# Altium footprint library TI Power Management Lighting and Display.PcbLib: 148 footprints (part 3 of 10)
Each footprint in its own frame and in the unit in brackets; x right, y up, seen from the top. Pads: shape width x height; smd on the part's side, far side on the other; paste and mask are expansions set on the pad; w line width, h text height; cw(c..) or ccw(c..) is an arc to the next point about the centre after c.
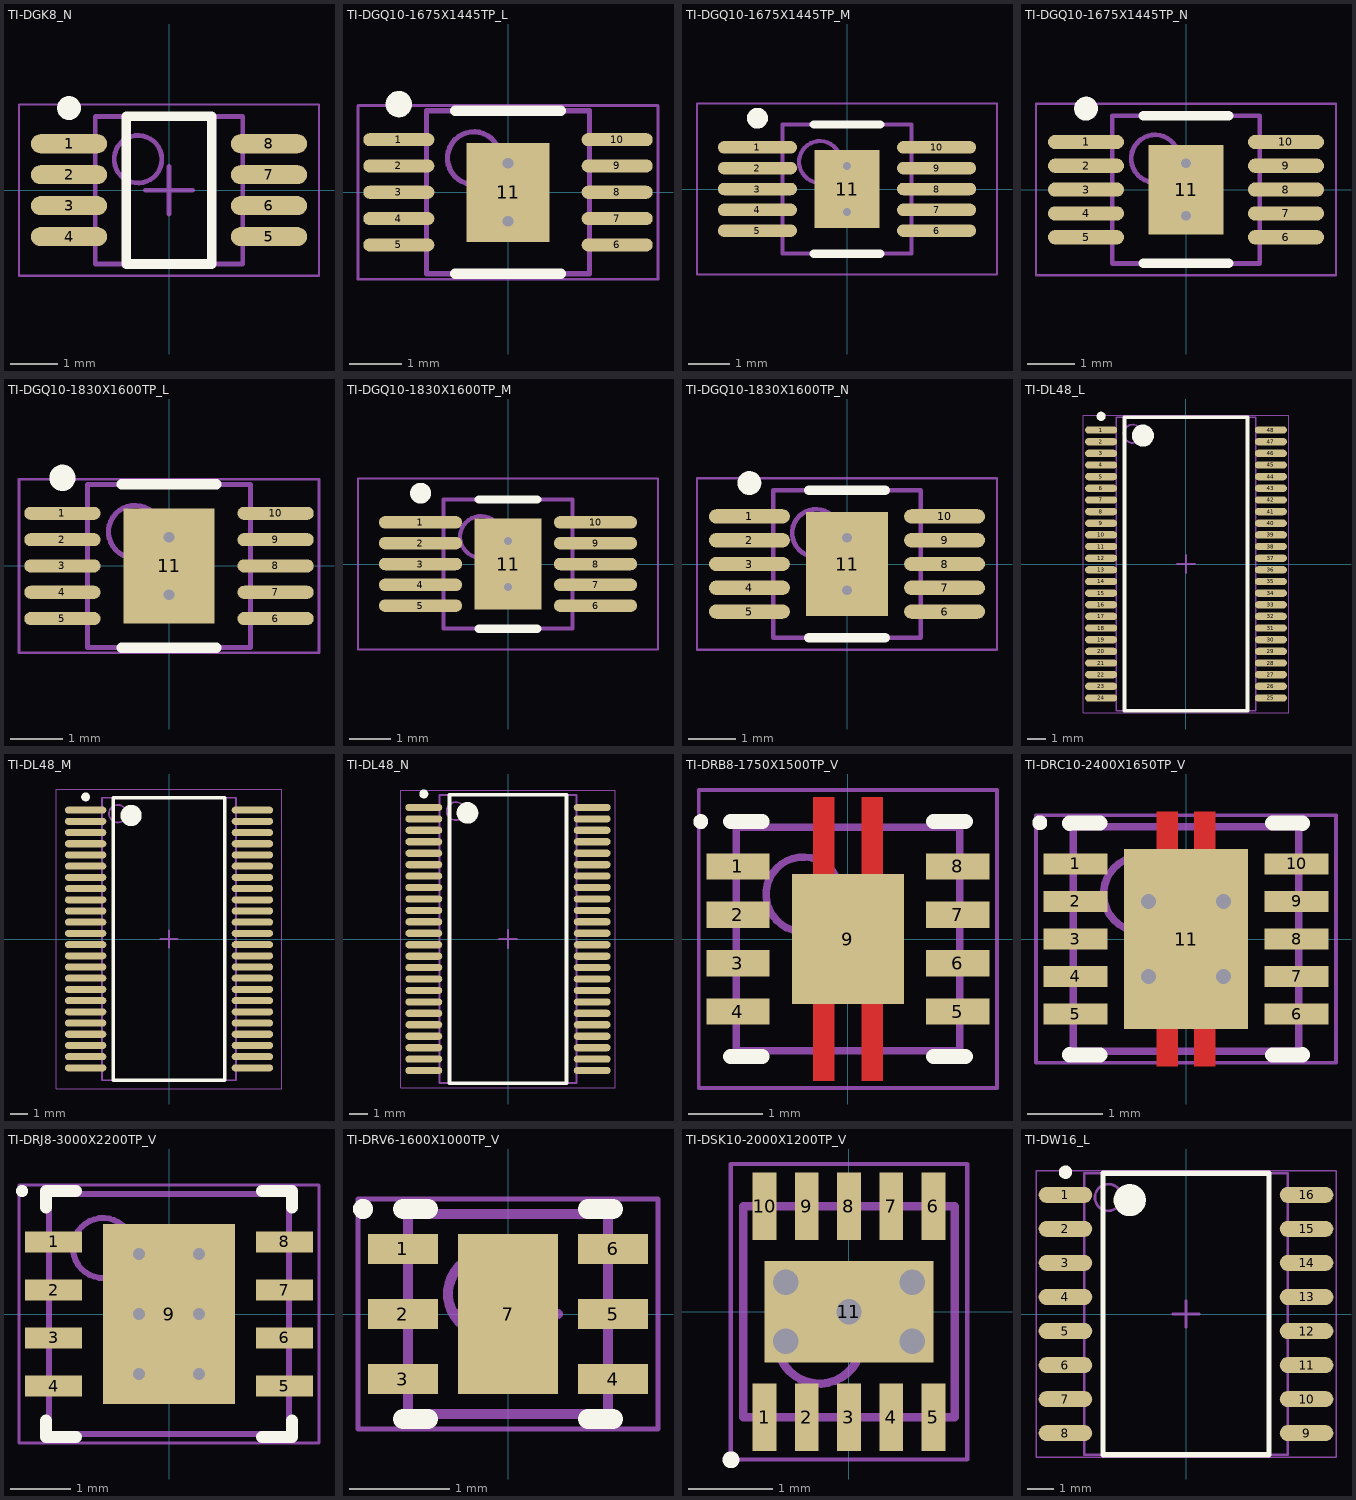
[diagram p2: the footprints below, top view; thin cyan lines are the x and y axes]

## TI-DGK8_N [mm] "SOP, 8-Leads, Body 3x3mm, Pitch 0.65mm, IPC Medium Density"
height 1.1
pads (8):
  oval 1.6x0.4 smd: 1(-2.1,0.975) 2(-2.1,0.325) 3(-2.1,-0.325) 4(-2.1,-0.975) 5(2.1,-0.975) 6(2.1,-0.325) 7(2.1,0.325) 8(2.1,0.975)
Top Overlay:
  circle w0.25: c-2.1,1.725 r0.125
  lines w0.2: -0.9,-1.55 0.9,-1.55 0.9,1.55 -0.9,1.55 -0.9,-1.55
Mechanical 13:
  circle w0.1: c-0.65,0.65 r0.5
  lines w0.1: -1.55,-1.55 1.55,-1.55 1.55,1.55 -1.55,1.55 -1.55,-1.55
Mechanical 15:
  lines w0.05: -3.15,-1.8 3.15,-1.8 3.15,1.8 -3.15,1.8 -3.15,-1.8
  lines w0.1: -0.5,0 0.5,0 ; 0,-0.5 0,0.5
3D body: height 1.1, standoff 0.05, extent -1.55,-1.55 1.55,1.55

## TI-DGQ10-1675X1445TP_L [mm] "SOP, 10-Leads, Body 3.0x3.0mm, Pitch 0.5mm, Thermal Pad 1.675X1.445mm, IPC High Density"
height 1.1
pads (11):
  oval 1.35x0.25 smd: 1(-2.075,1) 2(-2.075,0.5) 3(-2.075,0) 4(-2.075,-0.5) 5(-2.075,-1) 6(2.075,-1) 7(2.075,-0.5) 8(2.075,0) 9(2.075,0.5) 10(2.075,1)
  rect 1.57x1.88 smd: 11(0,0)
via 0,0.55 diameter 0.5 hole 0.2
via 0,-0.55 diameter 0.5 hole 0.2
Top Overlay:
  circle w0.25: c-2.075,1.675 r0.125
  lines w0.2: -1,-1.55 1,-1.55 ; -1,1.55 1,1.55
Mechanical 13:
  circle w0.1: c-0.65,0.65 r0.5
  lines w0.1: -1.55,-1.55 -1.55,1.55 1.55,1.55 1.55,-1.55 -1.55,-1.55
Mechanical 15:
  lines w0.05: -2.85,-1.65 -2.85,1.65 2.85,1.65 2.85,-1.65 -2.85,-1.65
  lines w0.1: -0.5,0 0.5,0 ; 0,-0.5 0,0.5
3D body: height 1.1, standoff 0.05, extent -1.55,-1.55 1.55,1.55

## TI-DGQ10-1675X1445TP_M [mm] "SOP, 10-Leads, Body 3.0x3.0mm, Pitch 0.5mm, Thermal Pad 1.675X1.445mm, IPC Low Density"
height 1.1
pads (11):
  oval 1.9x0.3 smd: 1(-2.15,1) 2(-2.15,0.5) 3(-2.15,0) 4(-2.15,-0.5) 5(-2.15,-1) 6(2.15,-1) 7(2.15,-0.5) 8(2.15,0) 9(2.15,0.5) 10(2.15,1)
  rect 1.57x1.88 smd: 11(0,0)
via 0,0.55 diameter 0.5 hole 0.2
via 0,-0.55 diameter 0.5 hole 0.2
Top Overlay:
  circle w0.25: c-2.15,1.7 r0.125
  lines w0.2: -0.8,-1.55 0.8,-1.55 ; -0.8,1.55 0.8,1.55
Mechanical 13:
  circle w0.1: c-0.65,0.65 r0.5
  lines w0.1: -1.55,-1.55 -1.55,1.55 1.55,1.55 1.55,-1.55 -1.55,-1.55
Mechanical 15:
  lines w0.05: -3.6,-2.05 -3.6,2.05 3.6,2.05 3.6,-2.05 -3.6,-2.05
  lines w0.1: -0.5,0 0.5,0 ; 0,-0.5 0,0.5
3D body: height 1.1, standoff 0.05, extent -1.55,-1.55 1.55,1.55

## TI-DGQ10-1675X1445TP_N [mm] "SOP, 10-Leads, Body 3.0x3.0mm, Pitch 0.5mm, Thermal Pad 1.675X1.445mm, IPC Medium Density"
height 1.1
pads (11):
  oval 1.6x0.3 smd: 1(-2.1,1) 2(-2.1,0.5) 3(-2.1,0) 4(-2.1,-0.5) 5(-2.1,-1) 6(2.1,-1) 7(2.1,-0.5) 8(2.1,0) 9(2.1,0.5) 10(2.1,1)
  rect 1.57x1.88 smd: 11(0,0)
via 0,-0.55 diameter 0.5 hole 0.2
via 0,0.55 diameter 0.5 hole 0.2
Top Overlay:
  circle w0.25: c-2.1,1.7 r0.125
  lines w0.2: -0.9,-1.55 0.9,-1.55 ; -0.9,1.55 0.9,1.55
Mechanical 13:
  circle w0.1: c-0.65,0.65 r0.5
  lines w0.1: -1.55,-1.55 1.55,-1.55 1.55,1.55 -1.55,1.55 -1.55,-1.55
Mechanical 15:
  lines w0.05: -3.15,-1.8 3.15,-1.8 3.15,1.8 -3.15,1.8 -3.15,-1.8
  lines w0.1: -0.5,0 0.5,0 ; 0,-0.5 0,0.5
3D body: height 1.1, standoff 0.05, extent -1.55,-1.55 1.55,1.55

## TI-DGQ10-1830X1600TP_L [mm] "SOP, 10-Leads, Body 3x3mm, Pitch 0.5mm, Thermal Pad 1.83x1.6mm, IPC High Density"
height 1.1
pads (11):
  oval 1.45x0.25 smd: 1(-2.025,1) 2(-2.025,0.5) 3(-2.025,0) 4(-2.025,-0.5) 5(-2.025,-1) 6(2.025,-1) 7(2.025,-0.5) 8(2.025,0) 9(2.025,0.5) 10(2.025,1)
  rect 1.72x2.18 smd: 11(0,0)
via 0,0.55 diameter 0.5 hole 0.2
via 0,-0.55 diameter 0.5 hole 0.2
Top Overlay:
  circle w0.25: c-2.025,1.675 r0.125
  lines w0.2: -0.9,-1.55 0.9,-1.55 ; -0.9,1.55 0.9,1.55
Mechanical 13:
  circle w0.1: c-0.65,0.65 r0.5
  lines w0.1: -1.55,-1.55 -1.55,1.55 1.55,1.55 1.55,-1.55 -1.55,-1.55
Mechanical 15:
  lines w0.05: -2.85,-1.65 -2.85,1.65 2.85,1.65 2.85,-1.65 -2.85,-1.65
  lines w0.1: -0.5,0 0.5,0 ; 0,-0.5 0,0.5
3D body: height 1.1, standoff 0.05, extent -1.55,-1.55 1.55,1.55

## TI-DGQ10-1830X1600TP_M [mm] "SOP, 10-Leads, Body 3x3mm, Pitch 0.5mm, Thermal Pad 1.83x1.6mm, IPC Low Density"
height 1.1
pads (11):
  oval 2x0.3 smd: 1(-2.1,1) 2(-2.1,0.5) 3(-2.1,0) 4(-2.1,-0.5) 5(-2.1,-1) 6(2.1,-1) 7(2.1,-0.5) 8(2.1,0) 9(2.1,0.5) 10(2.1,1)
  rect 1.6x2.18 smd: 11(0,0)
via 0,0.55 diameter 0.5 hole 0.2
via 0,-0.55 diameter 0.5 hole 0.2
Top Overlay:
  circle w0.25: c-2.1,1.7 r0.125
  lines w0.2: -0.7,-1.55 0.7,-1.55 ; -0.7,1.55 0.7,1.55
Mechanical 13:
  circle w0.1: c-0.65,0.65 r0.5
  lines w0.1: -1.55,-1.55 -1.55,1.55 1.55,1.55 1.55,-1.55 -1.55,-1.55
Mechanical 15:
  lines w0.05: -3.6,-2.05 -3.6,2.05 3.6,2.05 3.6,-2.05 -3.6,-2.05
  lines w0.1: -0.5,0 0.5,0 ; 0,-0.5 0,0.5
3D body: height 1.1, standoff 0.05, extent -1.55,-1.55 1.55,1.55

## TI-DGQ10-1830X1600TP_N [mm] "SOP, 10-Leads, Body 3x3mm, Pitch 0.5mm, Thermal Pad 1.83x1.6mm, IPC Medium Density"
height 1.1
pads (11):
  oval 1.7x0.3 smd: 1(-2.05,1) 2(-2.05,0.5) 3(-2.05,0) 4(-2.05,-0.5) 5(-2.05,-1) 6(2.05,-1) 7(2.05,-0.5) 8(2.05,0) 9(2.05,0.5) 10(2.05,1)
  rect 1.72x2.18 smd: 11(0,0)
via 0,0.55 diameter 0.5 hole 0.2
via 0,-0.55 diameter 0.5 hole 0.2
Top Overlay:
  circle w0.25: c-2.05,1.7 r0.125
  lines w0.2: -0.8,-1.55 0.8,-1.55 ; -0.8,1.55 0.8,1.55
Mechanical 13:
  circle w0.1: c-0.65,0.65 r0.5
  lines w0.1: -1.55,-1.55 -1.55,1.55 1.55,1.55 1.55,-1.55 -1.55,-1.55
Mechanical 15:
  lines w0.05: -3.15,-1.8 -3.15,1.8 3.15,1.8 3.15,-1.8 -3.15,-1.8
  lines w0.1: -0.5,0 0.5,0 ; 0,-0.5 0,0.5
3D body: height 1.1, standoff 0.05, extent -1.55,-1.55 1.55,1.55

## TI-DL48_L [mm] "SOP, 48-Leads, Body 15.88x7.49mm, Pitch 0.635mm, IPC High Density"
height 2.79
pads (48):
  oval 1.75x0.4 smd: 1(-4.625,7.302) 2(-4.625,6.667) 3(-4.625,6.032) 4(-4.625,5.397) 5(-4.625,4.763) 6(-4.625,4.127) 7(-4.625,3.492) 8(-4.625,2.857) 9(-4.625,2.222) 10(-4.625,1.587) 11(-4.625,0.953) 12(-4.625,0.318) 13(-4.625,-0.318) 14(-4.625,-0.953) 15(-4.625,-1.587) 16(-4.625,-2.222) 17(-4.625,-2.857) 18(-4.625,-3.492) 19(-4.625,-4.127) 20(-4.625,-4.763) 21(-4.625,-5.397) 22(-4.625,-6.032) 23(-4.625,-6.667) 24(-4.625,-7.302) 25(4.625,-7.302) 26(4.625,-6.667) 27(4.625,-6.032) 28(4.625,-5.397) 29(4.625,-4.763) 30(4.625,-4.127) 31(4.625,-3.492) 32(4.625,-2.857) 33(4.625,-2.222) 34(4.625,-1.587) 35(4.625,-0.953) 36(4.625,-0.318) 37(4.625,0.318) 38(4.625,0.953) 39(4.625,1.587) 40(4.625,2.222) 41(4.625,2.857) 42(4.625,3.492) 43(4.625,4.127) 44(4.625,4.763) 45(4.625,5.397) 46(4.625,6.032) 47(4.625,6.667) 48(4.625,7.302)
Top Overlay:
  circle w0.25: c-4.625,8.053 r0.125
  circle w0.6: c-2.35,7 r0.3
  lines w0.2: -3.35,-8 -3.35,8 3.35,8 3.35,-8 -3.35,-8
Mechanical 13:
  circle w0.1: c-2.9,7.1 r0.5
  lines w0.1: -3.8,-8 -3.8,8 3.8,8 3.8,-8 -3.8,-8
Mechanical 15:
  lines w0.05: -5.6,-8.1 -5.6,8.1 5.6,8.1 5.6,-8.1 -5.6,-8.1
  lines w0.1: -0.5,0 0.5,0 ; 0,-0.5 0,0.5
3D body: height 2.79, standoff 0.2, extent -3.8,-8 3.8,8

## TI-DL48_M [mm] "SOP, 48-Leads, Body 15.88x7.49mm, Pitch 0.635mm, IPC Low Density"
height 2.79
pads (48):
  oval 2.35x0.4 smd: 1(-4.725,7.302) 2(-4.725,6.667) 3(-4.725,6.032) 4(-4.725,5.397) 5(-4.725,4.763) 6(-4.725,4.127) 7(-4.725,3.492) 8(-4.725,2.857) 9(-4.725,2.222) 10(-4.725,1.587) 11(-4.725,0.953) 12(-4.725,0.318) 13(-4.725,-0.318) 14(-4.725,-0.953) 15(-4.725,-1.587) 16(-4.725,-2.222) 17(-4.725,-2.857) 18(-4.725,-3.492) 19(-4.725,-4.127) 20(-4.725,-4.763) 21(-4.725,-5.397) 22(-4.725,-6.032) 23(-4.725,-6.667) 24(-4.725,-7.302) 25(4.725,-7.302) 26(4.725,-6.667) 27(4.725,-6.032) 28(4.725,-5.397) 29(4.725,-4.763) 30(4.725,-4.127) 31(4.725,-3.492) 32(4.725,-2.857) 33(4.725,-2.222) 34(4.725,-1.587) 35(4.725,-0.953) 36(4.725,-0.318) 37(4.725,0.318) 38(4.725,0.953) 39(4.725,1.587) 40(4.725,2.222) 41(4.725,2.857) 42(4.725,3.492) 43(4.725,4.127) 44(4.725,4.763) 45(4.725,5.397) 46(4.725,6.032) 47(4.725,6.667) 48(4.725,7.302)
Top Overlay:
  circle w0.25: c-4.725,8.053 r0.125
  circle w0.6: c-2.15,7 r0.3
  lines w0.2: -3.15,-8 -3.15,8 3.15,8 3.15,-8 -3.15,-8
Mechanical 13:
  circle w0.1: c-2.9,7.1 r0.5
  lines w0.1: -3.8,-8 -3.8,8 3.8,8 3.8,-8 -3.8,-8
Mechanical 15:
  lines w0.05: -6.4,-8.5 -6.4,8.5 6.4,8.5 6.4,-8.5 -6.4,-8.5
  lines w0.1: -0.5,0 0.5,0 ; 0,-0.5 0,0.5
3D body: height 2.79, standoff 0.2, extent -3.8,-8 3.8,8

## TI-DL48_N [mm] "SOP, 48-Leads, Body 15.88x7.49mm, Pitch 0.635mm, IPC Medium Density"
height 2.79
pads (48):
  oval 2.05x0.4 smd: 1(-4.675,7.302) 2(-4.675,6.667) 3(-4.675,6.032) 4(-4.675,5.397) 5(-4.675,4.763) 6(-4.675,4.127) 7(-4.675,3.492) 8(-4.675,2.857) 9(-4.675,2.222) 10(-4.675,1.587) 11(-4.675,0.953) 12(-4.675,0.318) 13(-4.675,-0.318) 14(-4.675,-0.953) 15(-4.675,-1.587) 16(-4.675,-2.222) 17(-4.675,-2.857) 18(-4.675,-3.492) 19(-4.675,-4.127) 20(-4.675,-4.763) 21(-4.675,-5.397) 22(-4.675,-6.032) 23(-4.675,-6.667) 24(-4.675,-7.302) 25(4.675,-7.302) 26(4.675,-6.667) 27(4.675,-6.032) 28(4.675,-5.397) 29(4.675,-4.763) 30(4.675,-4.127) 31(4.675,-3.492) 32(4.675,-2.857) 33(4.675,-2.222) 34(4.675,-1.587) 35(4.675,-0.953) 36(4.675,-0.318) 37(4.675,0.318) 38(4.675,0.953) 39(4.675,1.587) 40(4.675,2.222) 41(4.675,2.857) 42(4.675,3.492) 43(4.675,4.127) 44(4.675,4.763) 45(4.675,5.397) 46(4.675,6.032) 47(4.675,6.667) 48(4.675,7.302)
Top Overlay:
  circle w0.25: c-4.675,8.053 r0.125
  circle w0.6: c-2.25,7 r0.3
  lines w0.2: -3.25,-8 -3.25,8 3.25,8 3.25,-8 -3.25,-8
Mechanical 13:
  circle w0.1: c-2.9,7.1 r0.5
  lines w0.1: -3.8,-8 -3.8,8 3.8,8 3.8,-8 -3.8,-8
Mechanical 15:
  lines w0.05: -5.95,-8.25 -5.95,8.25 5.95,8.25 5.95,-8.25 -5.95,-8.25
  lines w0.1: -0.5,0 0.5,0 ; 0,-0.5 0,0.5
3D body: height 2.79, standoff 0.2, extent -3.8,-8 3.8,8

## TI-DRB8-1750X1500TP_V [mm] "SON, 8-Leads, Body 3x3mm, Pitch 0.65mm, Thermal Pad 1.50 x 3.8mm"
height 1
pads (9):
  rect 0.85x0.35 smd: 1(-1.475,0.975) 2(-1.475,0.325) 3(-1.475,-0.325) 4(-1.475,-0.975) 5(1.475,-0.975) 6(1.475,-0.325) 7(1.475,0.325) 8(1.475,0.975)
  rect 1.5x1.75 smd: 9(0,0)
Top Layer:
  region: 0.185,0.875 0.185,1.9 0.465,1.9 0.465,0.875
  region: -0.185,-0.875 -0.185,-1.9 -0.465,-1.9 -0.465,-0.875
  region: 0.185,-0.875 0.185,-1.9 0.465,-1.9 0.465,-0.875
  region: -0.185,0.875 -0.185,1.9 -0.465,1.9 -0.465,0.875
Top Overlay:
  circle w0.1: c-1.975,1.575 r0.05
  lines w0.2: -1.575,-1.575 -1.15,-1.575 ; -1.575,1.575 -1.15,1.575 ; 1.15,-1.575 1.575,-1.575 ; 1.15,1.575 1.575,1.575
Top Paste:
  region: -0.185,0.875 -0.185,1.9 -0.465,1.9 -0.465,0.875
  region: 0.185,-0.875 0.185,-1.9 0.465,-1.9 0.465,-0.875
  region: -0.185,-0.875 -0.185,-1.9 -0.465,-1.9 -0.465,-0.875
  region: 0.185,0.875 0.185,1.9 0.465,1.9 0.465,0.875
Mechanical 13:
  circle w0.1: c-0.6,0.6 r0.5
  lines w0.1: -1.5,-1.5 -1.5,1.5 1.5,1.5 1.5,-1.5 -1.5,-1.5
Mechanical 15:
  lines w0.05: -2,-2 2,-2 2,-1.675 2,1.675 2,2 -2,2 -2,1.675 -2,-1.675 -2,-2
  lines w0.1: -0.5,0 0.5,0 ; 0,-0.5 0,0.5
3D body: height 1, standoff 0, extent -1.5,-1.5 1.5,1.5

## TI-DRC10-2400X1650TP_V [mm] "SON, 10-Leads, Body 3x3mm, Pitch 0.5mm, Thermal Pad 3x1.65mm"
height 1
pads (11):
  rect 0.85x0.28 smd: 1(-1.475,1) 2(-1.475,0.5) 3(-1.475,0) 4(-1.475,-0.5) 5(-1.475,-1) 6(1.475,-1) 7(1.475,-0.5) 8(1.475,0) 9(1.475,0.5) 10(1.475,1)
  rect 1.65x2.4 smd: 11(0,0)
via 0.5,-0.5 diameter 0.5 hole 0.2
via -0.5,-0.5 diameter 0.5 hole 0.2
via 0.5,0.5 diameter 0.5 hole 0.2
via -0.5,0.5 diameter 0.5 hole 0.2
Top Layer:
  region: 0.11,1.2 0.11,1.7 0.39,1.7 0.39,1.2
  region: -0.11,-1.2 -0.11,-1.7 -0.39,-1.7 -0.39,-1.2
  region: 0.11,-1.2 0.11,-1.7 0.39,-1.7 0.39,-1.2
  region: -0.11,1.2 -0.11,1.7 -0.39,1.7 -0.39,1.2
Top Overlay:
  circle w0.1: c-1.95,1.55 r0.05
  lines w0.2: -1.55,-1.54 -1.55,-1.55 -1.15,-1.55 ; -1.55,1.54 -1.55,1.55 -1.15,1.55 ; 1.15,-1.55 1.55,-1.55 1.55,-1.54 ; 1.15,1.55 1.55,1.55 1.55,1.54
Top Paste:
  region: 0.11,1.2 0.11,1.7 0.39,1.7 0.39,1.2
  region: -0.11,-1.2 -0.11,-1.7 -0.39,-1.7 -0.39,-1.2
  region: 0.11,-1.2 0.11,-1.7 0.39,-1.7 0.39,-1.2
  region: -0.11,1.2 -0.11,1.7 -0.39,1.7 -0.39,1.2
Mechanical 13:
  circle w0.1: c-0.6,0.6 r0.5
  lines w0.1: -1.5,-1.5 1.5,-1.5 1.5,1.5 -1.5,1.5 -1.5,-1.5
Mechanical 15:
  lines w0.05: -2,-1.65 2,-1.65 2,1.65 -2,1.65 -2,-1.65
  lines w0.1: -0.5,0 0.5,0 ; 0,-0.5 0,0.5
3D body: height 1, standoff 0, extent -1.5,-1.5 1.5,1.5

## TI-DRJ8-3000X2200TP_V [mm] "SON, 8-Leads, Body 4x4mm, Pitch 0.8mm, Thermal Pad 3x2.2mm"
height 0.8
pads (9):
  rect 0.95x0.35 smd mask+0.102: 1(-1.925,1.2) 2(-1.925,0.4) 3(-1.925,-0.4) 4(-1.925,-1.2) 5(1.925,-1.2) 6(1.925,-0.4) 7(1.925,0.4) 8(1.925,1.2)
  rect 2.2x3 smd mask+0.102: 9(0,0)
via 0.5,-1 diameter 0.5 hole 0.2
via -0.5,-1 diameter 0.5 hole 0.2
via 0.5,0 diameter 0.5 hole 0.2
via -0.5,0 diameter 0.5 hole 0.2
via 0.5,1 diameter 0.5 hole 0.2
via -0.5,1 diameter 0.5 hole 0.2
Top Overlay:
  circle w0.1: c-2.45,2.05 r0.05
  lines w0.2: -2.05,-1.775 -2.05,-2.05 -1.55,-2.05 ; -2.05,1.775 -2.05,2.05 -1.55,2.05 ; 1.55,-2.05 2.05,-2.05 2.05,-1.775 ; 1.55,2.05 2.05,2.05 2.05,1.775
Mechanical 13:
  circle w0.1: c-1.1,1.1 r0.5
  lines w0.1: -2,-2 2,-2 2,2 -2,2 -2,-2
Mechanical 15:
  lines w0.05: -2.5,-2.15 2.5,-2.15 2.5,2.15 -2.5,2.15 -2.5,-2.15
  lines w0.1: -0.5,0 0.5,0 ; 0,-0.5 0,0.5
3D body: height 0.8, standoff 0, extent -2,-2 2,2

## TI-DRV6-1600X1000TP_V [mm] "SON, 6-Leads, Body 2x2mm, Pitch 0.65mm, Thermal Pad 1X1.6mm"
height 0.8
pads (7):
  rect 0.7x0.3 smd: 1(-1.05,0.65) 2(-1.05,0) 3(-1.05,-0.65) 4(1.05,-0.65) 5(1.05,0) 6(1.05,0.65)
  rect 1x1.6 smd: 7(0,0)
Top Overlay:
  circle w0.1: c-1.45,1.05 r0.05
  lines w0.2: -1.05,-1.05 -0.8,-1.05 ; -1.05,1.05 -0.8,1.05 ; 0.8,-1.05 1.05,-1.05 ; 0.8,1.05 1.05,1.05
Mechanical 13:
  circle w0.1: c-0.2,0.2 r0.4
  lines w0.1: -1,-1 -1,1 1,1 1,-1 -1,-1
Mechanical 15:
  lines w0.05: -1.5,-1.15 -1.5,1.15 1.5,1.15 1.5,-1.15 -1.5,-1.15
  lines w0.1: -0.5,0 0.5,0 ; 0,-0.5 0,0.5
3D body: height 0.8, standoff 0, extent -1,-1 1,1

## TI-DSK10-2000X1200TP_V [mm] "SON, 10-Leads, Body 2.5x2.5mm, Pitch 0.5mm, Thermal Pad 1.2X2.0mm"
height 0.8
pads (11):
  rect 0.28x0.8 smd mask+0.102: 1(-1,-1.25) 2(-0.5,-1.25) 3(0,-1.25) 4(0.5,-1.25) 5(1,-1.25) 6(1,1.25) 7(0.5,1.25) 8(0,1.25) 9(-0.5,1.25) 10(-1,1.25)
  rect 2x1.2 smd mask+0.102: 11(0,0)
via 0.75,0.35 diameter 0.4 hole 0.3
via -0.75,0.35 diameter 0.4 hole 0.3
via 0,0 diameter 0.4 hole 0.3
via -0.75,-0.35 diameter 0.4 hole 0.3
via 0.75,-0.35 diameter 0.4 hole 0.3
Top Overlay:
  circle w0.1: c-1.397,-1.752 r0.05
Mechanical 13:
  circle w0.1: c-0.35,-0.35 r0.5
  lines w0.1: -1.25,-1.25 -1.25,1.25 1.25,1.25 1.25,-1.25 -1.25,-1.25
Mechanical 15:
  lines w0.05: -1.4,-1.75 -1.4,1.75 1.4,1.75 1.4,-1.75 -1.4,-1.75
  lines w0.1: -0.5,0 0.5,0 ; 0,-0.5 0,0.5
3D body: height 0.8, standoff 0, extent -1.25,-1.25 1.25,1.25

## TI-DW16_L [mm] "SOIC, 16-Leads, Body 10.3x7.5mm, Pitch 1.27mm, IPC High Density"
height 2.65
pads (16):
  oval 2x0.6 smd: 1(-4.5,4.445) 2(-4.5,3.175) 3(-4.5,1.905) 4(-4.5,0.635) 5(-4.5,-0.635) 6(-4.5,-1.905) 7(-4.5,-3.175) 8(-4.5,-4.445) 9(4.5,-4.445) 10(4.5,-3.175) 11(4.5,-1.905) 12(4.5,-0.635) 13(4.5,0.635) 14(4.5,1.905) 15(4.5,3.175) 16(4.5,4.445)
Top Overlay:
  circle w0.25: c-4.5,5.295 r0.125
  circle w0.6: c-2.1,4.25 r0.3
  lines w0.2: -3.1,-5.25 -3.1,5.25 3.1,5.25 3.1,-5.25 -3.1,-5.25
Mechanical 13:
  circle w0.1: c-2.9,4.35 r0.5
  lines w0.1: -3.8,-5.25 -3.8,5.25 3.8,5.25 3.8,-5.25 -3.8,-5.25
Mechanical 15:
  lines w0.05: -5.6,-5.35 -5.6,5.35 5.6,5.35 5.6,-5.35 -5.6,-5.35
  lines w0.1: -0.5,0 0.5,0 ; 0,-0.5 0,0.5
3D body: height 2.65, standoff 0.1, extent -3.8,-5.25 3.8,5.25